# Altium integrated library Holtek Semiconductor Video.IntLib: 10 symbols
Pins are listed as number, name and electrical type; pins without a type are passive.

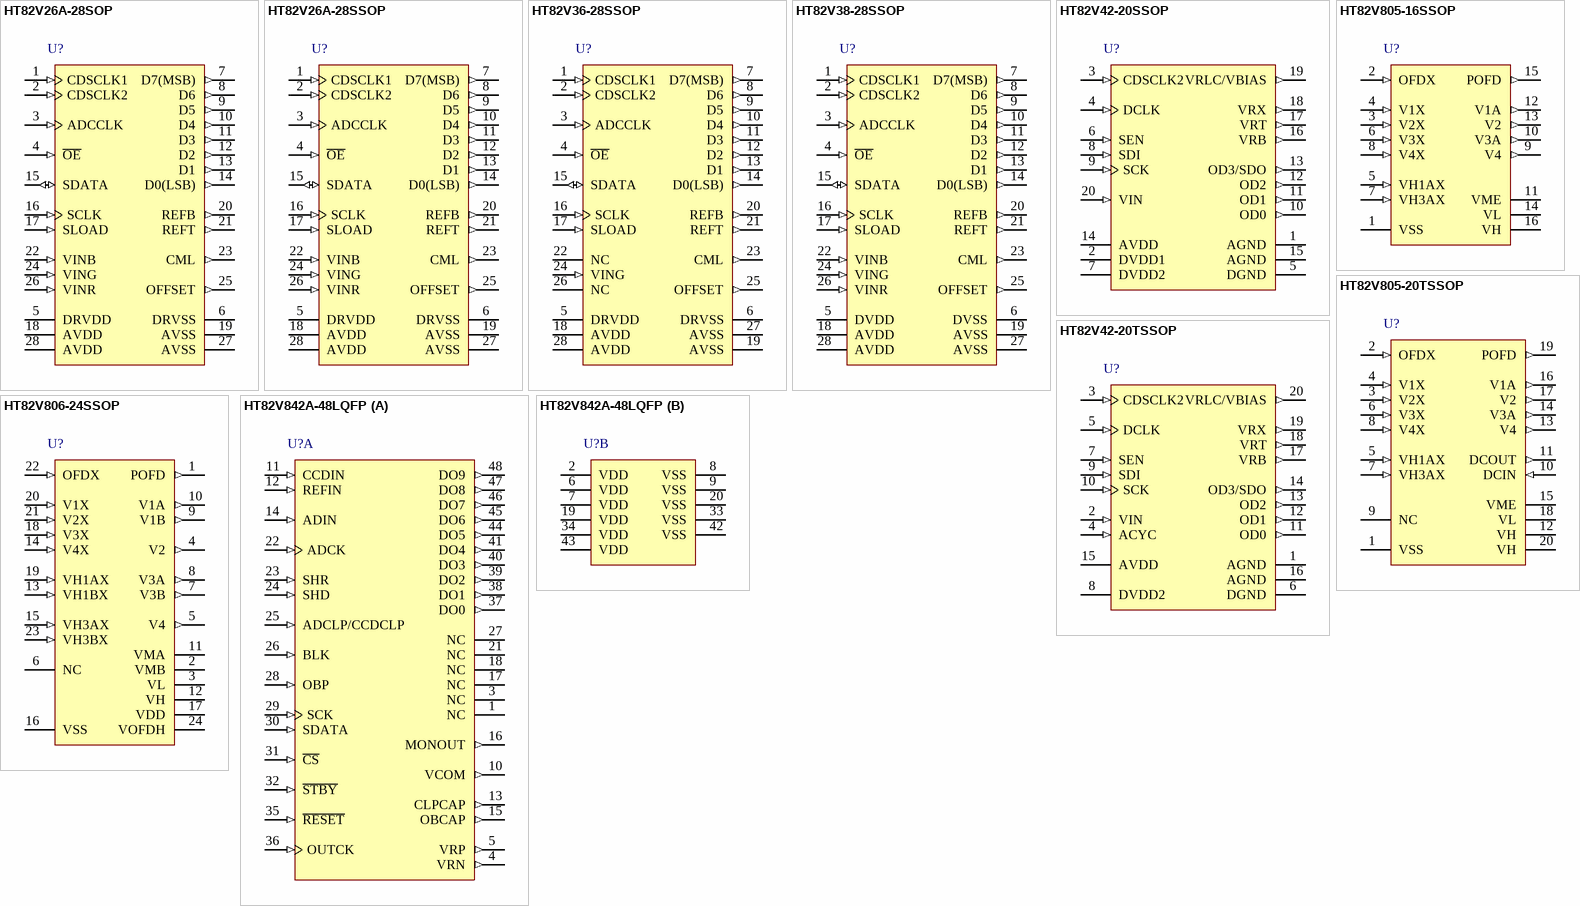
[diagram p0: symbols HT82V26A-28SOP to HT82V842A-48LQFP]

## HT82V26A-28SOP
designator U?
16-Bit CCD/CIS Analog Signal Processor, 3.3V, 56mW, 6 MSPS, 2.0V Full Scale, 28SOP Pkg; DatasheetVersion: Rev1.10, Nov-2008; PackageVersion: 25/05/2010; PackageReference: 28SOP; PackageDescription: 28-Pin Small Outline Package, 300mil Wide, 1.27 mm Pitch; Code_JEDEC: MS-013; ComponentLink1Description: Manufacturer URL; ComponentLink1URL: http://www.holtek.com/; ComponentLink2Description: Datasheet; ComponentLink2URL: http://www.holtek.com/pdf/consumer/82v26av110.pdf; ComponentLink3Description: Package Specification; ComponentLink3URL: http://www.holtek.com/english/literature/package.pdf
footprint 28SOP_N (SOIC, 28-Leads, Body 17.9x7.1mm, Pitch 1.27mm, IPC Medium Density)
footprint 28SOP_L (SOIC, 28-Leads, Body 17.9x7.1mm, Pitch 1.27mm, IPC High Density)
footprint 28SOP_M (SOIC, 28-Leads, Body 17.9x7.1mm, Pitch 1.27mm, IPC Low Density)
pins: 1 CDSCLK1 (in), 2 CDSCLK2 (in), 3 ADCCLK (in), 4 ~{OE} (in), 5 DRVDD (power), 6 DRVSS (power), 7 D7(MSB) (out), 8 D6 (out), 9 D5 (out), 10 D4 (out), 11 D3 (out), 12 D2 (out), 13 D1 (out), 14 D0(LSB) (out), 15 SDATA (io), 16 SCLK (in), 17 SLOAD (in), 18 AVDD (power), 19 AVSS (power), 20 REFB (out), 21 REFT (out), 22 VINB (in), 23 CML (out), 24 VING (in), 25 OFFSET (out), 26 VINR (in), 27 AVSS (power), 28 AVDD (power)

## HT82V26A-28SSOP
designator U?
16-Bit CCD/CIS Analog Signal Processor, 5V, 400mW, 30 MSPS, 2.0V Full Scale, 28SSOP Pkg; DatasheetVersion: Rev1.10, Nov-2008; PackageVersion: 25/05/2010; PackageReference: 28SSOP150; PackageDescription: 28-Pin Shrink Small Outline Package, 150mil Width, 0.64 mm Pitch; ComponentLink1Description: Manufacturer URL; ComponentLink1URL: http://www.holtek.com/; ComponentLink2Description: Datasheet; ComponentLink2URL: http://www.holtek.com/pdf/consumer/82v26av110.pdf; ComponentLink3Description: Package Specification; ComponentLink3URL: http://www.holtek.com/english/literature/package.pdf
footprint 28SSOP150_N (SOP, 28-Leads, Body 9.9x3.9mm, Pitch 0.635mm, IPC Medium Density)
footprint 28SSOP150_L (SOP, 28-Leads, Body 9.9x3.9mm, Pitch 0.635mm, IPC High Density)
footprint 28SSOP150_M (SOP, 28-Leads, Body 9.9x3.9mm, Pitch 0.635mm, IPC Low Density)
pins: 1 CDSCLK1 (in), 2 CDSCLK2 (in), 3 ADCCLK (in), 4 ~{OE} (in), 5 DRVDD (power), 6 DRVSS (power), 7 D7(MSB) (out), 8 D6 (out), 9 D5 (out), 10 D4 (out), 11 D3 (out), 12 D2 (out), 13 D1 (out), 14 D0(LSB) (out), 15 SDATA (io), 16 SCLK (in), 17 SLOAD (in), 18 AVDD (power), 19 AVSS (power), 20 REFB (out), 21 REFT (out), 22 VINB (in), 23 CML (out), 24 VING (in), 25 OFFSET (out), 26 VINR (in), 27 AVSS (power), 28 AVDD (power)

## HT82V36-28SSOP
designator U?
16-Bit CCD/CIS Analog Signal Processor, 3.3V, 300mW, 30 MSPS, 1.4V Full Scale, 28SSOP Pkg; DatasheetVersion: Rev1.40, Nov-2008; PackageVersion: 25/05/2010; PackageReference: 28SSOP209; PackageDescription: 28-Pin Shrink Small Outline Package, 209mil Wide, 0.65 mm Pitch; Code_JEDEC: MO-150; ComponentLink1Description: Manufacturer URL; ComponentLink1URL: http://www.holtek.com/; ComponentLink2Description: Datasheet; ComponentLink2URL: http://www.holtek.com/pdf/computer/82v36v140.pdf; ComponentLink3Description: Package Specification; ComponentLink3URL: http://www.holtek.com/english/literature/package.pdf
footprint 28SSOP209_N (SOP, 28-Leads, Body 10.2x5.3mm, Pitch 0.65mm, IPC Medium Density)
footprint 28SSOP209_L (SOP, 28-Leads, Body 10.2x5.3mm, Pitch 0.65mm, IPC High Density)
footprint 28SSOP209_M (SOP, 28-Leads, Body 10.2x5.3mm, Pitch 0.65mm, IPC Low Density)
pins: 1 CDSCLK1 (in), 2 CDSCLK2 (in), 3 ADCCLK (in), 4 ~{OE} (in), 5 DRVDD (power), 6 DRVSS (power), 7 D7(MSB) (out), 8 D6 (out), 9 D5 (out), 10 D4 (out), 11 D3 (out), 12 D2 (out), 13 D1 (out), 14 D0(LSB) (out), 15 SDATA (io), 16 SCLK (in), 17 SLOAD (in), 18 AVDD (power), 19 AVSS (power), 20 REFB (out), 21 REFT (out), 22 NC, 23 CML (out), 24 VING (in), 25 OFFSET (out), 26 NC, 27 AVSS (power), 28 AVDD (power)

## HT82V38-28SSOP
designator U?
16-Bit CCD/CIS Analog Signal Processor, 3.3V, 300mW, 30 MSPS, 1.6V/2.0V Full Scale, 28SSOP Pkg; DatasheetVersion: Rev1.00, Jul-2009; PackageVersion: 25/05/2010; PackageReference: 28SSOP209; PackageDescription: 28-Pin Shrink Small Outline Package, 209mil Wide, 0.65 mm Pitch; Code_JEDEC: MO-150; ComponentLink1Description: Manufacturer URL; ComponentLink1URL: http://www.holtek.com/; ComponentLink2Description: Datasheet; ComponentLink2URL: http://www.holtek.com/pdf/consumer/82v38v100.pdf; ComponentLink3Description: Package Specification; ComponentLink3URL: http://www.holtek.com/english/literature/package.pdf
footprint 28SSOP209_N (SOP, 28-Leads, Body 10.2x5.3mm, Pitch 0.65mm, IPC Medium Density)
footprint 28SSOP209_L (SOP, 28-Leads, Body 10.2x5.3mm, Pitch 0.65mm, IPC High Density)
footprint 28SSOP209_M (SOP, 28-Leads, Body 10.2x5.3mm, Pitch 0.65mm, IPC Low Density)
pins: 1 CDSCLK1 (in), 2 CDSCLK2 (in), 3 ADCCLK (in), 4 ~{OE} (in), 5 DVDD (power), 6 DVSS (power), 7 D7(MSB) (out), 8 D6 (out), 9 D5 (out), 10 D4 (out), 11 D3 (out), 12 D2 (out), 13 D1 (out), 14 D0(LSB) (out), 15 SDATA (io), 16 SCLK (in), 17 SLOAD (in), 18 AVDD (power), 19 AVSS (power), 20 REFB (out), 21 REFT (out), 22 VINB (in), 23 CML (out), 24 VING (in), 25 OFFSET (out), 26 VINR (in), 27 AVSS (power), 28 AVDD (power)

## HT82V42-20SSOP
designator U?
Single-channel 16-Bit CCD/CIS Analog Signal Processor, 3.3V, 188mW, 15 MSPS, 2.0V Full Scale, 20SSOP Pkg; DatasheetVersion: Rev1.00, Nov-2009; PackageVersion: 25/05/2010; PackageReference: 20SSOP209; PackageDescription: 20-Pin Shrink Small Outline Package, 209mil Wide, 0.65 mm Pitch; Code_JEDEC: MO-150; ComponentLink1Description: Manufacturer URL; ComponentLink1URL: http://www.holtek.com/; ComponentLink2Description: Datasheet; ComponentLink2URL: http://www.holtek.com/pdf/consumer/82v42v100.pdf; ComponentLink3Description: Package Specification; ComponentLink3URL: http://www.holtek.com/english/literature/package.pdf
footprint 24SSOP209_N (SOP, 20-Leads, Body 7.2x5.3mm, Pitch 0.65mm, IPC Medium Density)
footprint 24SSOP209_L (SOP, 20-Leads, Body 7.2x5.3mm, Pitch 0.65mm, IPC High Density)
footprint 24SSOP209_M (SOP, 20-Leads, Body 7.2x5.3mm, Pitch 0.65mm, IPC Low Density)
pins: 1 AGND (power), 2 DVDD1 (power), 3 CDSCLK2 (in), 4 DCLK (in), 5 DGND (power), 6 SEN (in), 7 DVDD2 (power), 8 SDI (in), 9 SCK (in), 10 OD0 (out), 11 OD1 (out), 12 OD2 (out), 13 OD3/SDO (out), 14 AVDD (power), 15 AGND (power), 16 VRB (out), 17 VRT (out), 18 VRX (out), 19 VRLC/VBIAS (out), 20 VIN (in)

## HT82V42-20TSSOP
designator U?
Single-channel 16-Bit CCD/CIS Analog Signal Processor, 3.3V, 188mW, 15 MSPS, 2.0V Full Scale, 20TSSOP Pkg; DatasheetVersion: Rev1.00, Nov-2009; PackageVersion: 25/05/2010; PackageReference: 20TSSOP; PackageDescription: 20-Pin Thin Shrink Small Outline Package 0.65 mm Pitch; ComponentLink1Description: Manufacturer URL; ComponentLink1URL: http://www.holtek.com/; ComponentLink2Description: Datasheet; ComponentLink2URL: http://www.holtek.com/pdf/consumer/82v42v100.pdf; ComponentLink3Description: Package Specification; ComponentLink3URL: http://www.holtek.com/english/literature/package.pdf
footprint 20TSSOP_N (TSOP, 20-Leads, Body 6.5x4.4mm, Pitch 0.65mm, IPC Medium Density)
footprint 20TSSOP_L (TSOP, 20-Leads, Body 6.5x4.4mm, Pitch 0.65mm, IPC High Density)
footprint 20TSSOP_M (TSOP, 20-Leads, Body 6.5x4.4mm, Pitch 0.65mm, IPC Low Density)
pins: 1 AGND (power), 2 VIN (in), 3 CDSCLK2 (in), 4 ACYC (in), 5 DCLK (in), 6 DGND (power), 7 SEN (in), 8 DVDD2 (power), 9 SDI (in), 10 SCK (in), 11 OD0 (out), 12 OD1 (out), 13 OD2 (out), 14 OD3/SDO (out), 15 AVDD (power), 16 AGND (power), 17 VRB (out), 18 VRT (out), 19 VRX (out), 20 VRLC/VBIAS (out)

## HT82V805-16SSOP
designator U?
CCD 4 Channel Vertical Driver, 16SSOP Pkg; DatasheetVersion: Rev1.10, Dec-2005; PackageVersion: 25/05/2010; PackageReference: 16SSOP; PackageDescription: 16-Pin Shrink Small Outline Package, 150mil Width, 0.64 mm Pitch; ComponentLink1Description: Manufacturer URL; ComponentLink1URL: http://www.holtek.com/; ComponentLink2Description: Datasheet; ComponentLink2URL: http://www.holtek.com/pdf/consumer/82v805v110.pdf; ComponentLink3Description: Package Specification; ComponentLink3URL: http://www.holtek.com/english/literature/package.pdf
footprint 16SSOP_N (SOP, 16-Leads, Body 4.9x3.9mm, Pitch 0.635mm, IPC Medium Density)
footprint 16SSOP_L (SOP, 16-Leads, Body 4.9x3.9mm, Pitch 0.635mm, IPC High Density)
footprint 16SSOP_M (SOP, 16-Leads, Body 4.9x3.9mm, Pitch 0.635mm, IPC Low Density)
pins: 1 VSS (power), 2 OFDX (in), 3 V2X (in), 4 V1X (in), 5 VH1AX (in), 6 V3X (in), 7 VH3AX (in), 8 V4X (in), 9 V4 (out), 10 V3A (out), 11 VME (power), 12 V1A (out), 13 V2 (out), 14 VL (power), 15 POFD (out), 16 VH (power)

## HT82V805-20TSSOP
designator U?
CCD 4 Channel Vertical Driver, 20TSSOP Pkg; DatasheetVersion: Rev1.10, Dec-2005; PackageVersion: 25/05/2010; PackageReference: 20TSSOP; PackageDescription: 20-Pin Thin Shrink Small Outline Package 0.65 mm Pitch; ComponentLink1Description: Manufacturer URL; ComponentLink1URL: http://www.holtek.com/; ComponentLink2Description: Datasheet; ComponentLink2URL: http://www.holtek.com/pdf/consumer/82v805v110.pdf; ComponentLink3Description: Package Specification; ComponentLink3URL: http://www.holtek.com/english/literature/package.pdf
footprint 20TSSOP_N (TSOP, 20-Leads, Body 6.5x4.4mm, Pitch 0.65mm, IPC Medium Density)
footprint 20TSSOP_L (TSOP, 20-Leads, Body 6.5x4.4mm, Pitch 0.65mm, IPC High Density)
footprint 20TSSOP_M (TSOP, 20-Leads, Body 6.5x4.4mm, Pitch 0.65mm, IPC Low Density)
pins: 1 VSS (power), 2 OFDX (in), 3 V2X (in), 4 V1X (in), 5 VH1AX (in), 6 V3X (in), 7 VH3AX (in), 8 V4X (in), 9 NC, 10 DCIN (in), 11 DCOUT (out), 12 VH (power), 13 V4 (out), 14 V3A (out), 15 VME (power), 16 V1A (out), 17 V2 (out), 18 VL (power), 19 POFD (out), 20 VH (power)

## HT82V806-24SSOP
designator U?
CCD 6 Channel Vertical Driver, 24SSOP Pkg; DatasheetVersion: Rev1.00, Feb-2006; PackageVersion: 25/05/2010; PackageReference: 24SSOP150; PackageDescription: 24-Pin Shrink Small Outline Package, 150mil Width, 0.64 mm Pitch; ComponentLink1Description: Manufacturer URL; ComponentLink1URL: http://www.holtek.com/; ComponentLink2Description: Datasheet; ComponentLink2URL: http://www.holtek.com/pdf/consumer/82v806v100.pdf; ComponentLink3Description: Package Specification; ComponentLink3URL: http://www.holtek.com/english/literature/package.pdf
footprint 24SSOP150_N (SOP, 24-Leads, Body 8.7x3.9mm, Pitch 0.635mm, IPC Medium Density)
footprint 24SSOP150_L (SOP, 24-Leads, Body 8.7x3.9mm, Pitch 0.635mm, IPC High Density)
footprint 24SSOP150_M (SOP, 24-Leads, Body 8.7x3.9mm, Pitch 0.635mm, IPC Low Density)
pins: 1 POFD (out), 2 VMB (power), 3 VL (power), 4 V2 (out), 5 V4 (out), 6 NC, 7 V3B (out), 8 V3A (out), 9 V1B (out), 10 V1A (out), 11 VMA (power), 12 VH (power), 13 VH1BX (in), 14 V4X (in), 15 VH3AX (in), 16 VSS (power), 17 VDD (power), 18 V3X (in), 19 VH1AX (in), 20 V1X (in), 21 V2X (in), 22 OFDX (in), 23 VH3BX (in), 24 VOFDH (power)

## HT82V842A-48LQFP
designator U?
10-Bit 20MSPS CCD Analog Signal Processor, 2.7 to 3.6V, 70mW, 20 MSPS, 1.0V Full Scale, 48LQFP Pkg; DatasheetVersion: Rev1.00, Jan-2006; PackageVersion: 25/05/2010; PackageReference: 48LQFP; PackageDescription: 48-Pin Low Profile Quad Flat Pack, 7 x 7 mm Body, 0.5 mm Pitch; ComponentLink1Description: Manufacturer URL; ComponentLink1URL: http://www.holtek.com/; ComponentLink2Description: Datasheet; ComponentLink2URL: http://www.holtek.com/pdf/consumer/82v842av100.pdf; ComponentLink3Description: Package Specification; ComponentLink3URL: http://www.holtek.com/english/literature/package.pdf
footprint 48LQFP_N (Thin QFP, 48-Leads, Body 7x7mm, Pitch 0.5mm, IPC Medium Density)
footprint 48LQFP_L (Thin QFP, 48-Leads, Body 7x7mm, Pitch 0.5mm, IPC High Density)
footprint 48LQFP_M (Thin QFP, 48-Leads, Body 7x7mm, Pitch 0.5mm, IPC Low Density)
part A pins: 1 NC, 3 NC, 4 VRN (out), 5 VRP (out), 10 VCOM (out), 11 CCDIN (in), 12 REFIN (in), 13 CLPCAP (out), 14 ADIN (in), 15 OBCAP (out), 16 MONOUT (out), 17 NC, 18 NC, 21 NC, 22 ADCK (in), 23 SHR (in), 24 SHD (in), 25 ADCLP/CCDCLP (in), 26 BLK (in), 27 NC, 28 OBP (in), 29 SCK (in), 30 SDATA (in), 31 ~{CS} (in), 32 ~{STBY} (in), 35 ~{RESET} (in), 36 OUTCK (in), 37 DO0 (out), 38 DO1 (out), 39 DO2 (out), 40 DO3 (out), 41 DO4 (out), 44 DO5 (out), 45 DO6 (out), 46 DO7 (out), 47 DO8 (out), 48 DO9 (out)
part B pins: 2 VDD (power), 6 VDD (power), 7 VDD (power), 8 VSS (power), 9 VSS (power), 19 VDD (power), 20 VSS (power), 33 VSS (power), 34 VDD (power), 42 VSS (power), 43 VDD (power)